# EAGLE library part NKK-OLED-ROCKER (library SKAARHOJ)
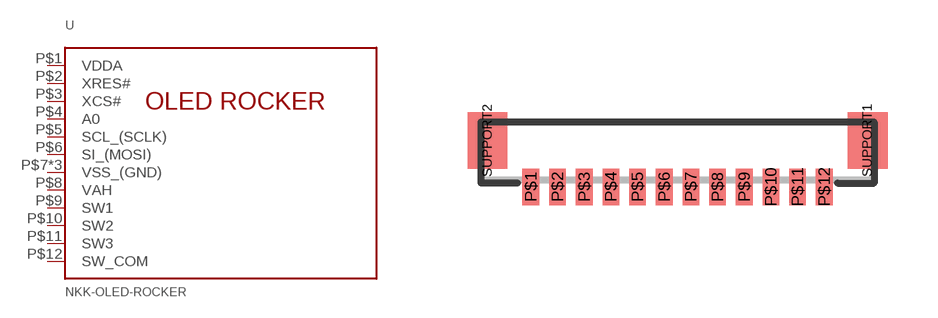
[diagram p29: symbol with the pads of JST_BM12B-SURS; footprint JST_BM12B-SURS]

Designator prefix -

## NKK-OLED-ROCKER  [JST_BM12B-SURS]
P$1  VDDA  pwr
P$2  XRES#  in
P$3  XCS#  in
P$4  A0  in
P$5  SCL_(SCLK)  in
P$6  SI_(MOSI)  in
P$7  VSS_(GND)  pwr
P$8  VAH  pwr
P$9  SW1
P$10  SW2
P$11  SW3
P$12  SW_COM
SUPPORT1  VSS_(GND)  pwr
SUPPORT2  VSS_(GND)  pwr

## Footprint JST_BM12B-SURS (pad centres in mm)
smd 0.5 x 1.1: P$1 -4.4,-1.95; P$2 -3.6,-1.95; P$3 -2.8,-1.95; P$4 -2,-1.95; P$5 -1.2,-1.95; P$6 -0.4,-1.95; P$7 0.4,-1.95; P$8 1.2,-1.95; P$9 2,-1.95; P$10 2.8,-1.95; P$11 3.6,-1.95; P$12 4.4,-1.95
smd 1.2 x 1.7: SUPPORT1 5.7,-0.55; SUPPORT2 -5.7,-0.55